# Altium schematic symbol library AVR单片机.SchLib: 14 symbols
Pins are listed as number, name and electrical type; pins without a type are passive.

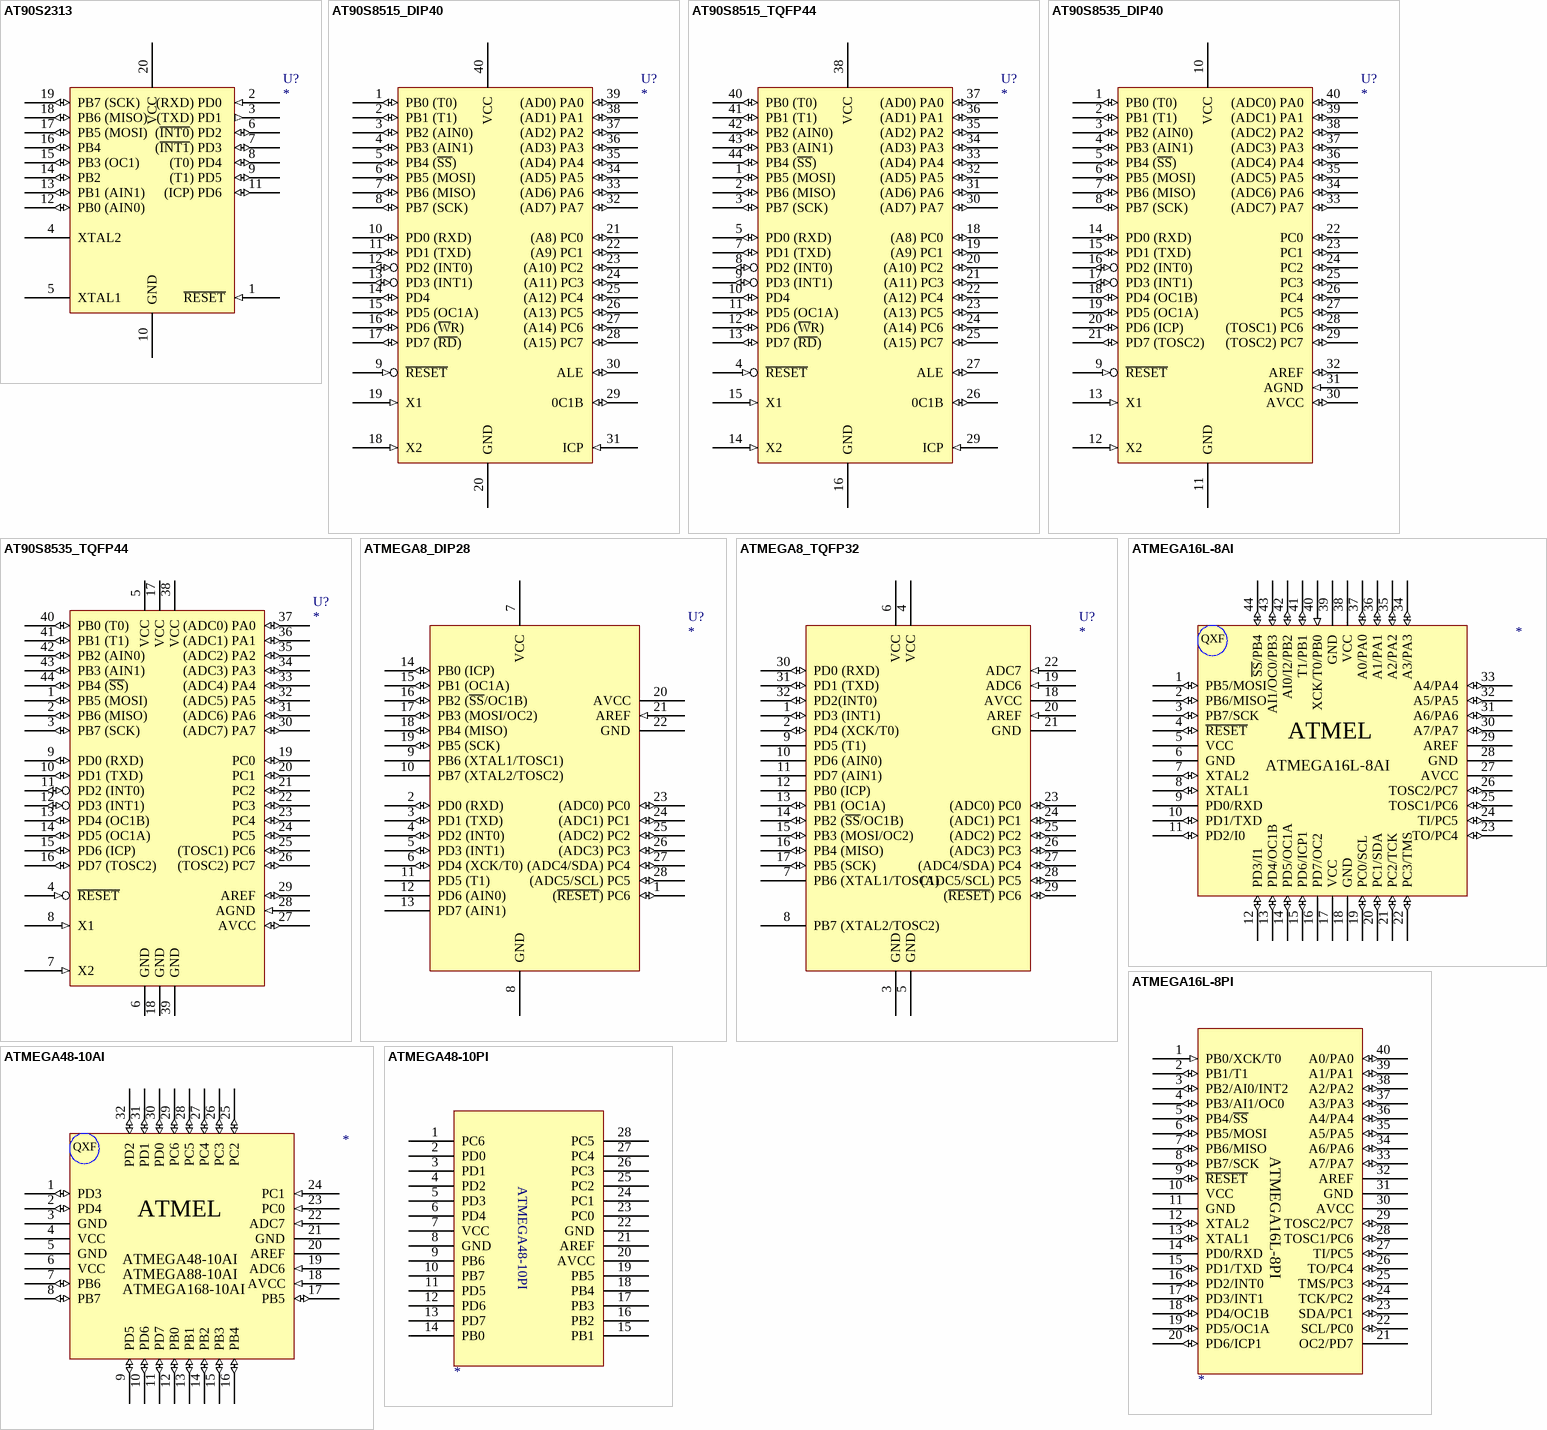
[diagram p0: symbols AT90S2313 to ATMEGA48-10PI]

## AT90S2313
designator U?
Atmel Microcontroller - Library created by carel..  <www.mpfreezone.com>
footprint SO-20
footprint DIP-20
pins: 1 ~{RESET} (in), 2 (RXD) PD0  (in), 3 (TXD) PD1  (out), 4 XTAL2, 5 XTAL1, 6 (~{INT0}) PD2  (io), 7 (~{INT1}) PD3  (io), 8 (T0) PD4  (io), 9 (T1) PD5  (io), 10 GND (power), 11 (ICP) PD6  (io), 12 PB0 (AIN0)  (io), 13 PB1 (AIN1)  (io), 14 PB2 (io), 15 PB3 (OC1)  (io), 16 PB4 (io), 17 PB5 (MOSI)  (io), 18 PB6 (MISO)  (io), 19 PB7 (SCK) (io), 20 VCC (power)

## AT90S8515_DIP40
designator U?
Atmel Microcontroller - Library created by carel..  <www.mpfreezone.com>
footprint DIP-40
pins: 1 PB0 (T0) (io), 2 PB1 (T1) (io), 3 PB2 (AIN0) (io), 4 PB3 (AIN1) (io), 5 PB4 (~{SS}) (io), 6 PB5 (MOSI) (io), 7 PB6 (MISO) (io), 8 PB7 (SCK) (io), 9 ~{RESET} (in), 10 PD0 (RXD) (io), 11 PD1 (TXD) (io), 12 PD2 (INT0) (io), 13 PD3 (INT1) (io), 14 PD4 (io), 15 PD5 (OC1A) (io), 16 PD6 (~{W}R) (io), 17 PD7 (~{RD}) (io), 18 X2 (in), 19 X1 (in), 20 GND (power), 21 (A8) PC0 (io), 22 (A9) PC1 (io), 23 (A10) PC2 (io), 24 (A11) PC3 (io), 25 (A12) PC4 (io), 26 (A13) PC5 (io), 27 (A14) PC6 (io), 28 (A15) PC7 (io), 29 0C1B (io), 30 ALE (io), 31 ICP (in), 32 (AD7) PA7 (io), 33 (AD6) PA6 (io), 34 (AD5) PA5 (io), 35 (AD4) PA4 (io), 36 (AD3) PA3 (io), 37 (AD2) PA2 (io), 38 (AD1) PA1 (io), 39 (AD0) PA0 (io), 40 VCC (power)

## AT90S8515_TQFP44
designator U?
Atmel Microcontroller - Library created by carel..  <www.mpfreezone.com>
footprint TQFP-44
pins: 1 PB5 (MOSI) (io), 2 PB6 (MISO) (io), 3 PB7 (SCK) (io), 4 ~{RESET} (in), 5 PD0 (RXD) (io), 7 PD1 (TXD) (io), 8 PD2 (INT0) (io), 9 PD3 (INT1) (io), 10 PD4 (io), 11 PD5 (OC1A) (io), 12 PD6 (~{W}R) (io), 13 PD7 (~{RD}) (io), 14 X2 (in), 15 X1 (in), 16 GND (power), 18 (A8) PC0 (io), 19 (A9) PC1 (io), 20 (A10) PC2 (io), 21 (A11) PC3 (io), 22 (A12) PC4 (io), 23 (A13) PC5 (io), 24 (A14) PC6 (io), 25 (A15) PC7 (io), 26 0C1B (io), 27 ALE (io), 29 ICP (in), 30 (AD7) PA7 (io), 31 (AD6) PA6 (io), 32 (AD5) PA5 (io), 33 (AD4) PA4 (io), 34 (AD3) PA3 (io), 35 (AD2) PA2 (io), 36 (AD1) PA1 (io), 37 (AD0) PA0 (io), 38 VCC (power), 40 PB0 (T0) (io), 41 PB1 (T1) (io), 42 PB2 (AIN0) (io), 43 PB3 (AIN1) (io), 44 PB4 (~{SS}) (io)

## AT90S8535_DIP40
designator U?
Atmel Microcontroller - Library created by carel..  <www.mpfreezone.com>
footprint DIP-40
pins: 1 PB0 (T0) (io), 2 PB1 (T1) (io), 3 PB2 (AIN0) (io), 4 PB3 (AIN1) (io), 5 PB4 (~{SS}) (io), 6 PB5 (MOSI) (io), 7 PB6 (MISO) (io), 8 PB7 (SCK) (io), 9 ~{RESET} (in), 10 VCC (power), 11 GND (power), 12 X2 (in), 13 X1 (in), 14 PD0 (RXD) (io), 15 PD1 (TXD) (io), 16 PD2 (INT0) (io), 17 PD3 (INT1) (io), 18 PD4 (OC1B) (io), 19 PD5 (OC1A) (io), 20 PD6 (ICP) (io), 21 PD7 (TOSC2) (io), 22 PC0 (io), 23 PC1 (io), 24 PC2 (io), 25 PC3 (io), 26 PC4 (io), 27 PC5 (io), 28 (TOSC1) PC6 (io), 29 (TOSC2) PC7 (io), 30 AVCC (io), 31 AGND (in), 32 AREF (io), 33 (ADC7) PA7 (io), 34 (ADC6) PA6 (io), 35 (ADC5) PA5 (io), 36 (ADC4) PA4 (io), 37 (ADC3) PA3 (io), 38 (ADC2) PA2 (io), 39 (ADC1) PA1 (io), 40 (ADC0) PA0 (io)

## AT90S8535_TQFP44
designator U?
Atmel Microcontroller - Library created by carel..  <www.mpfreezone.com>
footprint TQFP-44
pins: 1 PB5 (MOSI) (io), 2 PB6 (MISO) (io), 3 PB7 (SCK) (io), 4 ~{RESET} (in), 5 VCC, 6 GND, 7 X2 (in), 8 X1 (in), 9 PD0 (RXD) (io), 10 PD1 (TXD) (io), 11 PD2 (INT0) (io), 12 PD3 (INT1) (io), 13 PD4 (OC1B) (io), 14 PD5 (OC1A) (io), 15 PD6 (ICP) (io), 16 PD7 (TOSC2) (io), 17 VCC, 18 GND, 19 PC0 (io), 20 PC1 (io), 21 PC2 (io), 22 PC3 (io), 23 PC4 (io), 24 PC5 (io), 25 (TOSC1) PC6 (io), 26 (TOSC2) PC7 (io), 27 AVCC (io), 28 AGND (in), 29 AREF (io), 30 (ADC7) PA7 (io), 31 (ADC6) PA6 (io), 32 (ADC5) PA5 (io), 33 (ADC4) PA4 (io), 34 (ADC3) PA3 (io), 35 (ADC2) PA2 (io), 36 (ADC1) PA1 (io), 37 (ADC0) PA0 (io), 38 VCC (power), 39 GND (power), 40 PB0 (T0) (io), 41 PB1 (T1) (io), 42 PB2 (AIN0) (io), 43 PB3 (AIN1) (io), 44 PB4 (~{SS}) (io)

## ATMEGA8_DIP28
designator U?
Atmel Microcontroller - Library created by carel..  <www.mpfreezone.com>
footprint DIP-28
pins: 1 (~{RESET}) PC6 (io), 2 PD0 (RXD) (io), 3 PD1 (TXD) (io), 4 PD2 (INT0) (io), 5 PD3 (INT1) (io), 6 PD4 (XCK/T0) (io), 7 VCC, 8 GND, 9 PB6 (XTAL1/TOSC1), 10 PB7 (XTAL2/TOSC2), 11 PD5 (T1), 12 PD6 (AIN0), 13 PD7 (AIN1), 14 PB0 (ICP) (io), 15 PB1 (OC1A) (io), 16 PB2 (~{SS}/OC1B) (io), 17 PB3 (MOSI/OC2) (io), 18 PB4 (MISO) (io), 19 PB5 (SCK) (io), 20 AVCC, 21 AREF (in), 22 GND, 23 (ADC0) PC0 (io), 24 (ADC1) PC1 (io), 25 (ADC2) PC2 (io), 26 (ADC3) PC3 (io), 27 (ADC4/SDA) PC4 (io), 28 (ADC5/SCL) PC5 (io)

## ATMEGA8_TQFP32
designator U?
Atmel Microcontroller - Library created by carel..  <www.mpfreezone.com>
footprint DIP-28
pins: 1 PD3 (INT1) (io), 2 PD4 (XCK/T0) (io), 3 GND, 4 VCC (power), 5 GND (power), 6 VCC, 7 PB6 (XTAL1/TOSC1), 8 PB7 (XTAL2/TOSC2), 9 PD5 (T1), 10 PD6 (AIN0), 11 PD7 (AIN1), 12 PB0 (ICP), 13 PB1 (OC1A) (io), 14 PB2 (~{SS}/OC1B) (io), 15 PB3 (MOSI/OC2) (io), 16 PB4 (MISO) (io), 17 PB5 (SCK) (io), 18 AVCC, 19 ADC6 (in), 20 AREF (in), 21 GND, 22 ADC7 (in), 23 (ADC0) PC0 (io), 24 (ADC1) PC1 (io), 25 (ADC2) PC2 (io), 26 (ADC3) PC3 (io), 27 (ADC4/SDA) PC4 (io), 28 (ADC5/SCL) PC5 (io), 29 (~{RESET}) PC6 (io), 30 PD0 (RXD) (io), 31 PD1 (TXD) (io), 32 PD2(INT0) (io)

## ATMEGA16L-8AI
designator ?
pins: 1 PB5/MOSI (io), 2 PB6/MISO (io), 3 PB7/SCK (io), 4 ~{RESET} (io), 5 VCC (power), 6 GND (power), 7 XTAL2 (io), 8 XTAL1 (io), 9 PD0/RXD (power), 10 PD1/TXD (io), 11 PD2/I0 (io), 12 PD3/I1 (io), 13 PD4/OC1B (io), 14 PD5/OC1A (io), 15 PD6/ICP1 (io), 16 PD7/OC2 (power), 17 VCC (power), 18 GND (power), 19 PC0/SCL (io), 20 PC1/SDA (io), 21 PC2/TCK (io), 22 PC3/TMS (io), 23 TO/PC4 (io), 24 TI/PC5 (io), 25 TOSC1/PC6 (io), 26 TOSC2/PC7 (io), 27 AVCC (power), 28 GND (power), 29 AREF (power), 30 A7/PA7 (io), 31 A6/PA6 (io), 32 A5/PA5 (io), 33 A4/PA4 (io), 34 A3/PA3 (io), 35 A2/PA2 (io), 36 A1/PA1 (io), 37 A0/PA0 (io), 38 VCC (power), 39 GND (power), 40 XCK/T0/PB0 (in), 41 T1/PB1 (io), 42 AI0/I2/PB2 (io), 43 AI1/OC0/PB3 (io), 44 ~{SS}/PB4 (io)
text: QXF; ATMEL

## ATMEGA16L-8PI
designator ?
pins: 1 PB0/XCK/T0 (in), 2 PB1/T1 (io), 3 PB2/AI0/INT2 (io), 4 PB3/AI1/OC0 (io), 5 PB4/~{SS} (io), 6 PB5/MOSI (io), 7 PB6/MISO (io), 8 PB7/SCK (io), 9 ~{RESET} (io), 10 VCC (power), 11 GND (power), 12 XTAL2 (io), 13 XTAL1 (io), 14 PD0/RXD (power), 15 PD1/TXD (io), 16 PD2/INT0 (io), 17 PD3/INT1 (io), 18 PD4/OC1B (io), 19 PD5/OC1A (io), 20 PD6/ICP1 (io), 21 OC2/PD7 (power), 22 SCL/PC0 (io), 23 SDA/PC1 (io), 24 TCK/PC2 (io), 25 TMS/PC3 (io), 26 TO/PC4 (io), 27 TI/PC5 (io), 28 TOSC1/PC6 (io), 29 TOSC2/PC7 (io), 30 AVCC (power), 31 GND (power), 32 AREF (power), 33 A7/PA7 (io), 34 A6/PA6 (io), 35 A5/PA5 (io), 36 A4/PA4 (io), 37 A3/PA3 (io), 38 A2/PA2 (io), 39 A1/PA1 (io), 40 A0/PA0 (io)

## ATMEGA48-10AI
designator ?
pins: 1 PD3 (io), 2 PD4 (io), 3 GND (power), 4 VCC (power), 5 GND (power), 6 VCC (power), 7 PB6 (io), 8 PB7 (io), 9 PD5 (io), 10 PD6 (io), 11 PD7 (io), 12 PB0 (io), 13 PB1 (io), 14 PB2 (io), 15 PB3 (io), 16 PB4 (io), 17 PB5 (io), 18 AVCC (in), 19 ADC6 (in), 20 AREF, 21 GND (power), 22 ADC7 (in), 23 PC0 (in), 24 PC1 (in), 25 PC2 (io), 26 PC3 (io), 27 PC4 (io), 28 PC5 (io), 29 PC6 (io), 30 PD0 (io), 31 PD1 (io), 32 PD2 (io)
text: QXF; ATMEL; ATMEGA88-10AI; ATMEGA168-10AI

## ATMEGA48-10PI
designator ?
pins: 1 PC6, 2 PD0, 3 PD1, 4 PD2, 5 PD3, 6 PD4, 7 VCC, 8 GND, 9 PB6, 10 PB7, 11 PD5, 12 PD6, 13 PD7, 14 PB0, 15 PB1, 16 PB2, 17 PB3, 18 PB4, 19 PB5, 20 AVCC, 21 AREF, 22 GND, 23 PC0, 24 PC1, 25 PC2, 26 PC3, 27 PC4, 28 PC5

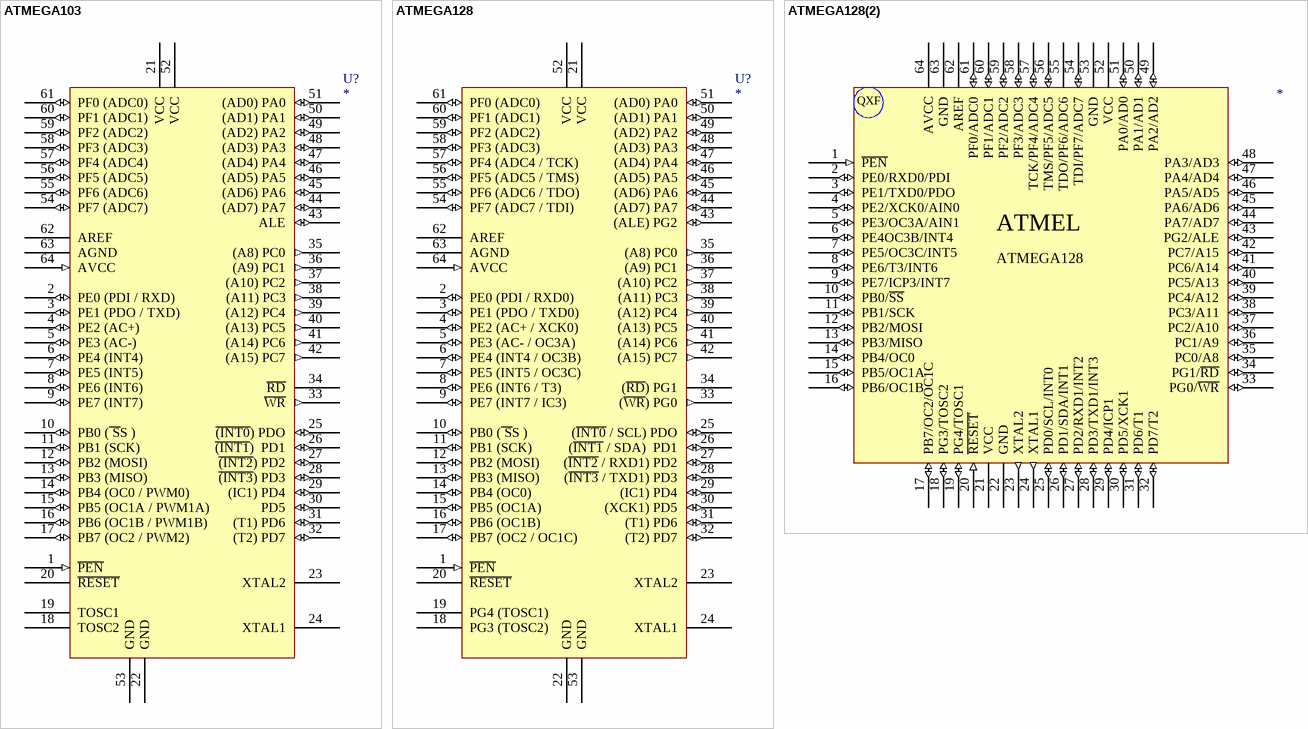
[diagram p1: symbols ATMEGA103 to ATMEGA128(2)]

## ATMEGA103
designator U?
Atmel Microcontroller - Library created by carel..  <www.mpfreezone.com>
footprint TQFP-64
pins: 1 ~{PEN} (in), 2 PE0 (PDI / RXD) (io), 3 PE1 (PDO / TXD)  (io), 4 PE2 (AC+) (io), 5 PE3 (AC-) (io), 6 PE4 (INT4) (io), 7 PE5 (INT5) (io), 8 PE6 (INT6) (io), 9 PE7 (INT7) (io), 10 PB0 (~{ S}S ) (io), 11 PB1 (SCK) (io), 12 PB2 (MOSI) (io), 13 PB3 (MISO) (io), 14 PB4 (OC0 / PWM0) (io), 15 PB5 (OC1A / PWM1A) (io), 16 PB6 (OC1B / PWM1B) (io), 17 PB7 (OC2 / PWM2) (io), 18 TOSC2, 19 TOSC1, 20 ~{RESET}, 21 VCC (power), 22 GND (power), 23 XTAL2, 24 XTAL1, 25 ~{(INT0}) PDO (io), 26 ~{(INT1})  PD1 (io), 27 ~{(INT2}) PD2 (io), 28 ~{(INT3}) PD3 (io), 29 (IC1) PD4 (io), 30 PD5 (io), 31 (T1) PD6 (io), 32 (T2) PD7 (io), 33 ~{WR} (out), 34 ~{RD}, 35 (A8) PC0 (out), 36 (A9) PC1 (out), 37 (A10) PC2 (out), 38 (A11) PC3 (out), 39 (A12) PC4 (out), 40 (A13) PC5 (out), 41 (A14) PC6 (out), 42 (A15) PC7 (out), 43 ALE (io), 44 (AD7) PA7 (io), 45 (AD6) PA6 (io), 46 (AD5) PA5 (io), 47 (AD4) PA4 (io), 48 (AD3) PA3 (io), 49 (AD2) PA2 (io), 50 (AD1) PA1 (io), 51 (AD0) PA0 (io), 52 VCC (power), 53 GND (power), 54 PF7 (ADC7) (io), 55 PF6 (ADC6) (io), 56 PF5 (ADC5) (io), 57 PF4 (ADC4) (io), 58 PF3 (ADC3) (io), 59 PF2 (ADC2) (io), 60 PF1 (ADC1) (io), 61 PF0 (ADC0) (io), 62 AREF, 63 AGND, 64 AVCC (in)

## ATMEGA128
designator U?
Atmel Microcontroller - Library created by carel..  <www.mpfreezone.com>
footprint TQFP-64
pins: 1 ~{PEN} (in), 2 PE0 (PDI / RXD0) (io), 3 PE1 (PDO / TXD0)  (io), 4 PE2 (AC+ / XCK0) (io), 5 PE3 (AC- / OC3A) (io), 6 PE4 (INT4 / OC3B) (io), 7 PE5 (INT5 / OC3C) (io), 8 PE6 (INT6 / T3) (io), 9 PE7 (INT7 / IC3) (io), 10 PB0 (~{ S}S ) (io), 11 PB1 (SCK) (io), 12 PB2 (MOSI) (io), 13 PB3 (MISO) (io), 14 PB4 (OC0) (io), 15 PB5 (OC1A) (io), 16 PB6 (OC1B) (io), 17 PB7 (OC2 / OC1C) (io), 18 PG3 (TOSC2), 19 PG4 (TOSC1), 20 ~{RESET}, 21 VCC (power), 22 GND (power), 23 XTAL2, 24 XTAL1, 25 (~{INT0} / SCL) PDO (io), 26 (~{INT1} / SDA)  PD1 (io), 27 (~{INT2} / RXD1) PD2 (io), 28 (~{INT3} / TXD1) PD3 (io), 29 (IC1) PD4 (io), 30 (XCK1) PD5 (io), 31 (T1) PD6 (io), 32 (T2) PD7 (io), 33 (~{WR}) PG0 (out), 34 (~{RD}) PG1, 35 (A8) PC0 (out), 36 (A9) PC1 (out), 37 (A10) PC2 (out), 38 (A11) PC3 (out), 39 (A12) PC4 (out), 40 (A13) PC5 (out), 41 (A14) PC6 (out), 42 (A15) PC7 (out), 43 (ALE) PG2 (io), 44 (AD7) PA7 (io), 45 (AD6) PA6 (io), 46 (AD5) PA5 (io), 47 (AD4) PA4 (io), 48 (AD3) PA3 (io), 49 (AD2) PA2 (io), 50 (AD1) PA1 (io), 51 (AD0) PA0 (io), 52 VCC (power), 53 GND (power), 54 PF7 (ADC7 / TDI) (io), 55 PF6 (ADC6 / TDO) (io), 56 PF5 (ADC5 / TMS) (io), 57 PF4 (ADC4 / TCK) (io), 58 PF3 (ADC3) (io), 59 PF2 (ADC2) (io), 60 PF1 (ADC1) (io), 61 PF0 (ADC0) (io), 62 AREF, 63 AGND, 64 AVCC (in)

## ATMEGA128(2)
designator ?
pins: 1 ~{PEN} (in), 2 PE0/RXD0/PDI (io), 3 PE1/TXD0/PDO (io), 4 PE2/XCK0/AIN0 (io), 5 PE3/OC3A/AIN1 (io), 6 PE4OC3B/INT4 (io), 7 PE5/OC3C/INT5 (io), 8 PE6/T3/INT6 (io), 9 PE7/ICP3/INT7 (io), 10 PB0/~{SS} (io), 11 PB1/SCK (io), 12 PB2/MOSI (io), 13 PB3/MISO (io), 14 PB4/OC0 (io), 15 PB5/OC1A (io), 16 PB6/OC1B (io), 17 PB7/OC2/OC1C (io), 18 PG3/TOSC2 (io), 19 PG4/TOSC1 (io), 20 ~{RESET} (in), 21 VCC (power), 22 GND (power), 23 XTAL2 (out), 24 XTAL1 (out), 25 PD0/SCL/INT0 (io), 26 PD1/SDA/INT1 (io), 27 PD2/RXD1/INT2 (io), 28 PD3/TXD1/INT3 (io), 29 PD4/ICP1 (io), 30 PD5/XCK1 (io), 31 PD6/T1 (io), 32 PD7/T2 (io), 33 PG0/~{WR} (io), 34 PG1/~{RD} (io), 35 PC0/A8 (io), 36 PC1/A9 (io), 37 PC2/A10 (io), 38 PC3/A11 (io), 39 PC4/A12 (io), 40 PC5/A13 (io), 41 PC6/A14 (io), 42 PC7/A15 (io), 43 PG2/ALE (io), 44 PA7/AD7 (io), 45 PA6/AD6 (io), 46 PA5/AD5 (io), 47 PA4/AD4 (io), 48 PA3/AD3 (io), 49 PA2/AD2 (io), 50 PA1/AD1 (io), 51 PA0/AD0 (io), 52 VCC (power), 53 GND (power), 54 TDI/PF7/ADC7 (io), 55 TDO/PF6/ADC6, 56 TMS/PF5/ADC5 (io), 57 TCK/PF4/ADC4 (io), 58 PF3/ADC3 (io), 59 PF2/ADC2 (io), 60 PF1/ADC1 (io), 61 PF0/ADC0 (io), 62 AREF, 63 GND (power), 64 AVCC (power)
text: QXF; ATMEL; ATMEGA128